# Altium schematic symbol library Schlib.SchLib: 6 symbols
Pins are listed as number, name and electrical type; pins without a type are passive.

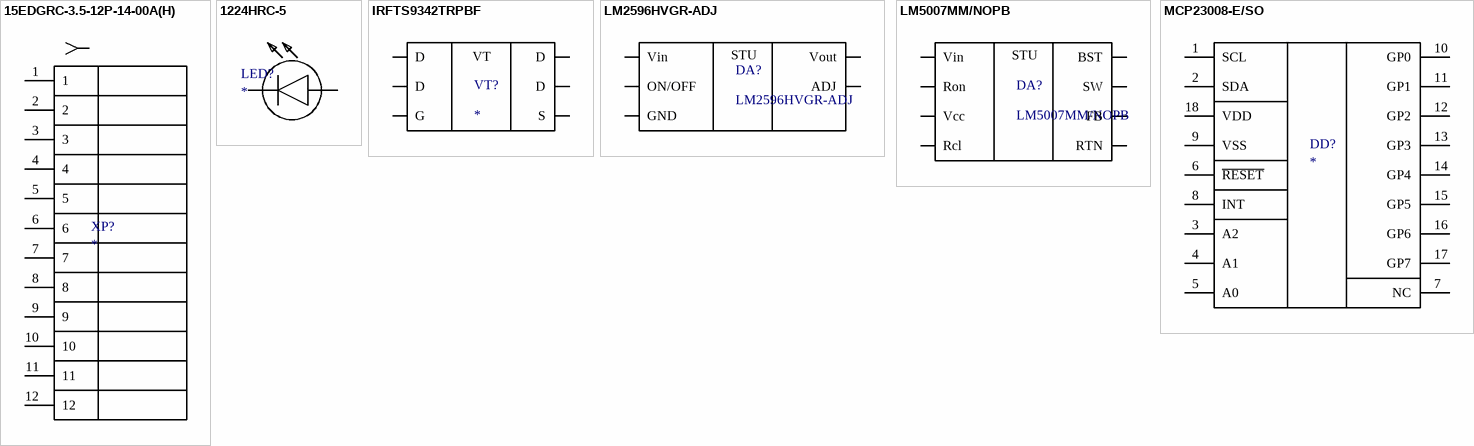
[diagram p0: symbols 15EDGRC-3.5-12P-14-00A(H) to MCP23008-E/SO]

## 15EDGRC-3.5-12P-14-00A(H)
designator XP?
12 pin, 3.5mm
footprint 15EDGRC-3.5-12P-14-00A(H) (Connector)
pins: 1, 2, 3, 4, 5, 6, 7, 8, 9, 10, 11, 12

## 1224HRC-5
designator LED?
LED; Manufacturer_Name: Everlight; Manufacturer_Part_Number: 1224HRC-5; Datasheet Link: https://www.digchip.com/datasheets/parts/datasheet/158/1224HRC-5-pdf.php; Height: 5.5mm
footprint 1224HRC5
pins: 1 K, 2 A

## IRFTS9342TRPBF
designator VT?
Транзистор, Р-канал 30В 5.9А
footprint 6-TSOP (pitch 0.95 mm)
pins: 1 D, 2 D, 3 G, 4 S, 5 D, 6 D
text: VT

## LM2596HVGR-ADJ
designator DA?
Step-down DC-DC, 3A
footprint to-263-5l
pins: 1 Vin, 2 Vout, 3 GND, 4 ADJ, 5 ON/OFF
text: STU

## LM5007MM/NOPB
designator DA?
Step-down DC-DC, 0.5A
footprint 8-VSSOP_EDIT
pins: 1 SW, 2 BST, 3 Rcl, 4 RTN, 5 FB, 6 Ron, 7 Vcc, 8 Vin
text: STU

## MCP23008-E/SO
designator DD?
Integrated Circuit
footprint 18-SOIC (pitch 1.27 mm)
pins: 1 SCL, 2 SDA, 3 A2, 4 A1, 5 A0, 6 ~{RESET}, 7 NC, 8 INT, 9 VSS, 10 GP0, 11 GP1, 12 GP2, 13 GP3, 14 GP4, 15 GP5, 16 GP6, 17 GP7, 18 VDD